# Altium footprint library esp32_s3_cam.PcbLib: 1 footprints
Each footprint in its own frame and in the unit in brackets; x right, y up, seen from the top. Pads: shape width x height; smd on the part's side, far side on the other; paste and mask are expansions set on the pad; w line width, h text height; cw(c..) or ccw(c..) is an arc to the next point about the centre after c.
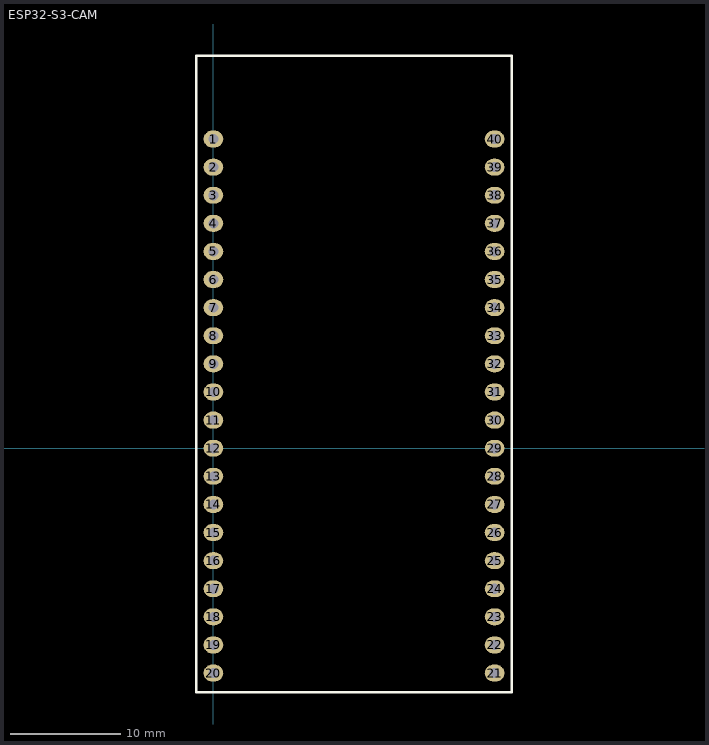
[diagram p0: the footprint, top view; thin cyan lines are the x and y axes]

## ESP32-S3-CAM [mil] "ESP32-S3-CAM"
pads (40):
  oval 70x60 hole 36: 1(0,1100) 2(0,1000) 3(0,900) 4(0,800) 5(0,700) 6(0,600) 7(0,500) 8(0,400) 9(0,300) 10(0,200) 11(0,100) 12(0,0) 13(0,-100) 14(0,-200) 15(0,-300) 16(0,-400) 17(0,-500) 18(0,-600) 19(0,-700) 20(0,-800) 21(1000,-800) 22(1000,-700) 23(1000,-600) 24(1000,-500) 25(1000,-400) 26(1000,-300) 27(1000,-200) 28(1000,-100) 29(1000,0) 30(1000,100) 31(1000,200) 32(1000,300) 33(1000,400) 34(1000,500) 35(1000,600) 36(1000,700) 37(1000,800) 38(1000,900) 39(1000,1000) 40(1000,1100)
Top Overlay:
  lines w10: -61,-868 1061,-868 1061,1396 -61,1396 -61,-868
3D body "Freenove ESP32-S3-WROOM-CAM.step": height 128.35, standoff -559.45, extent -55.12,-862.16 1055.12,1390.5